# Altium footprint library BoschGryoBMG160.PcbLib: 1 footprints
Each footprint in its own frame and in the unit in brackets; x right, y up, seen from the top. Pads: shape width x height; smd on the part's side, far side on the other; paste and mask are expansions set on the pad; w line width, h text height; cw(c..) or ccw(c..) is an arc to the next point about the centre after c.
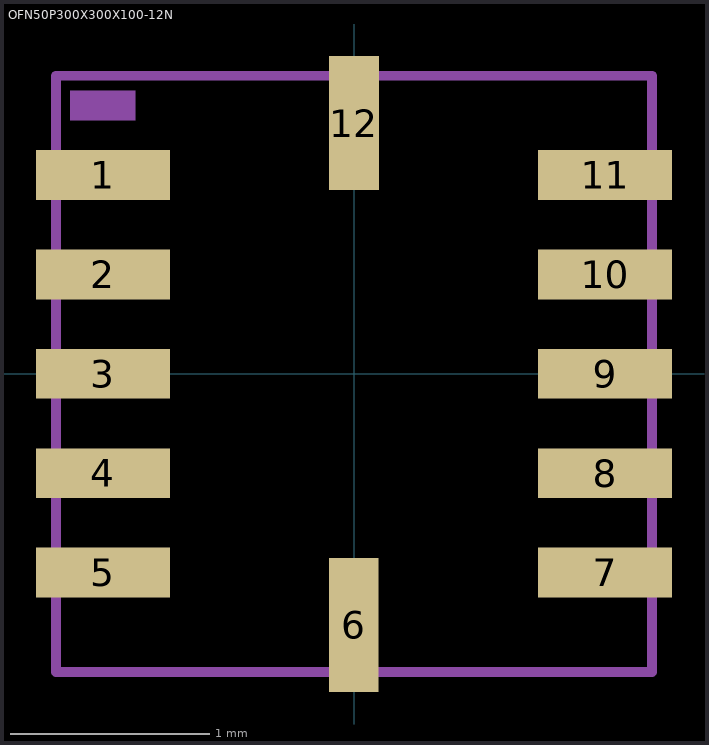
[diagram p0: the footprint, top view; thin cyan lines are the x and y axes]

## OFN50P300X300X100-12N [mm]
pads (12):
  rect 0.675x0.25 smd: 1(-1.263,1) 2(-1.263,0.5) 3(-1.263,0) 4(-1.263,-0.5) 5(-1.263,-1) 7(1.263,-1) 8(1.263,-0.5) 9(1.263,0) 10(1.263,0.5) 11(1.263,1)
  rect 0.25x0.675 smd: 6(-0.001,-1.263) 12(0,1.262)
Mechanical 1:
  region: -1.428,1.425 -1.1,1.425 -1.1,1.277 -1.428,1.277
  lines w0.05: -1.5,-1.5 -1.5,1.5 1.5,1.5 1.5,-1.5 -1.5,-1.5